# Altium footprint library 0154xxx.PcbLib: 1 footprints
Each footprint in its own frame and in the unit in brackets; x right, y up, seen from the top. Pads: shape width x height; smd on the part's side, far side on the other; paste and mask are expansions set on the pad; w line width, h text height; cw(c..) or ccw(c..) is an arc to the next point about the centre after c.
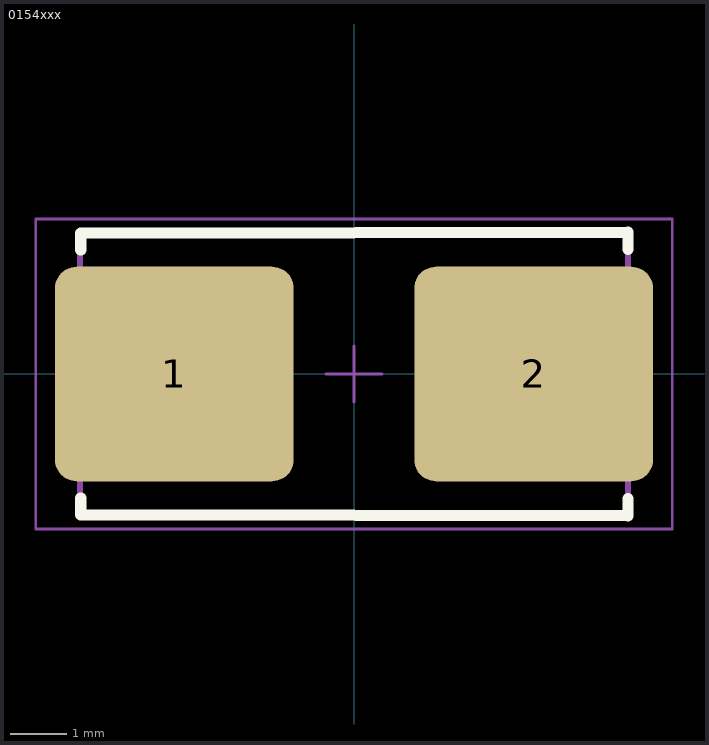
[diagram p0: the footprint, top view; thin cyan lines are the x and y axes]

## 0154xxx [mm]
height 3.81
pads (2):
  rrect20% 4.24x3.81 smd: 1(-3.19,0) 2(3.19,0)
Top Overlay:
  lines w0.2: -4.85,-2.2 -4.85,-2.5 -4.835,-2.5 4.865,-2.515 4.865,-2.215 ; -4.85,2.2 -4.85,2.5 -4.835,2.5 4.865,2.515 4.865,2.215
Top Assembly:
  lines w0.1: -4.865,-2.515 4.865,-2.515 4.865,2.515 -4.865,2.515 -4.865,-2.515
Top Courtyard:
  lines w0.05: -5.65,-2.75 5.65,-2.75 5.65,2.75 -5.65,2.75 -5.65,-2.75
Top Designator:
  text ".Designator" at -0.5,-0.5 h1
Top Component Center:
  lines w0.05: -0.5,0 0.5,0 ; 0,-0.5 0,0.5
3D body "User Library-Littlefuse 0154 Holder and Fuse.STEP": height 3.71, standoff 0.01, extent -4.835,-2.485 4.865,2.515